# Altium schematic symbol library Interconnects.SchLib: 25 symbols
Pins are listed as number, name and electrical type; pins without a type are passive.

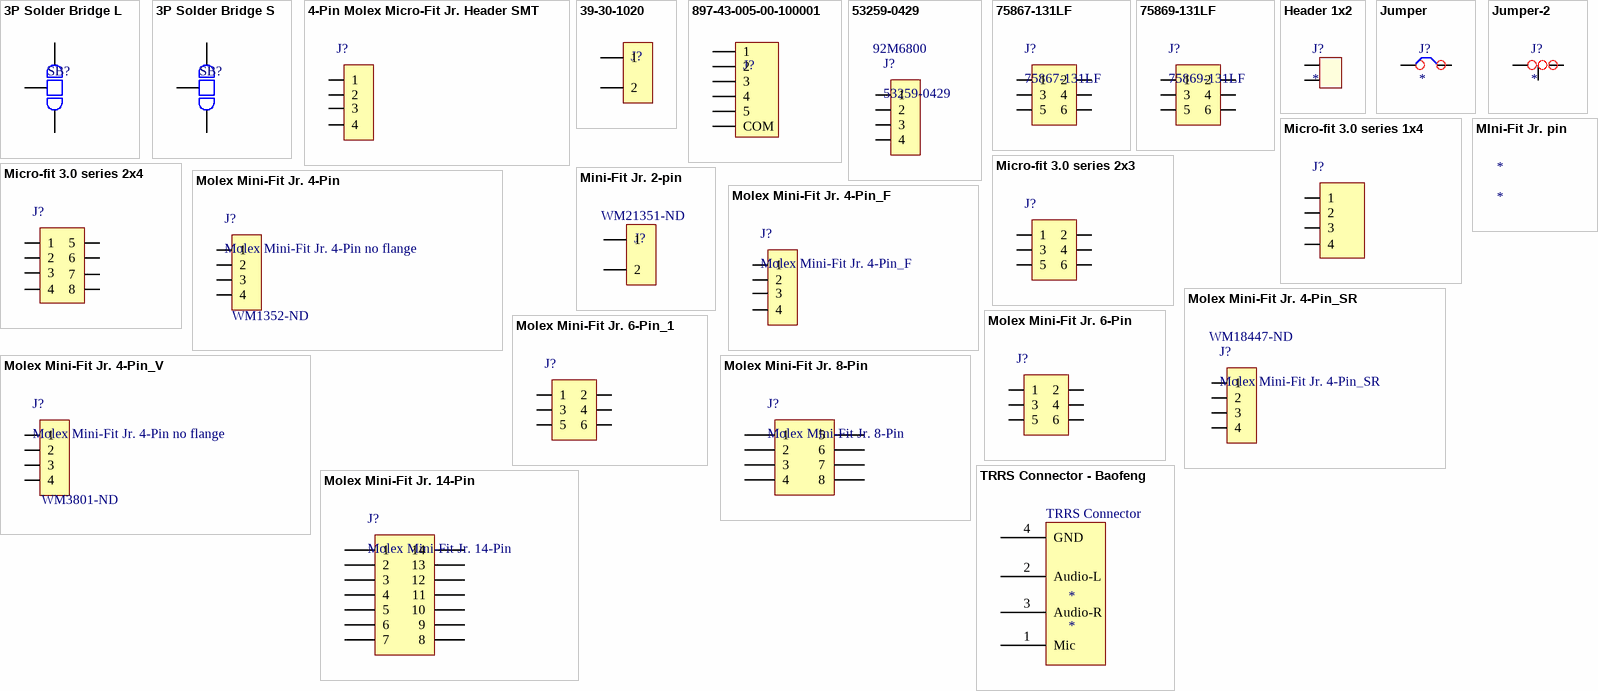
[diagram p0: symbols 3P Solder Bridge L to TRRS Connector - Baofeng]

## 3P Solder Bridge L
designator SB?  (value not drawn)
Solder Bridge, 3 position, Large; Solder Pads: 3; Latest Rev Note: Component Created; Latest Rev Date: Oct 31, 2010; Package: Custom 3 pad solder bridge large; Published: Oct 31, 2010; Publisher: Chris Bergsneider
footprint Solder Bridge 3P L (Solder Bridge, 3 position, Large)
pins: 1, 2, 3

## 3P Solder Bridge S
designator SB?  (value not drawn)
Solder Bridge, 3 position, Small; Solder Pads: 3; Latest Rev Note: Component Created; Latest Rev Date: Oct 31, 2010; Package: Custom 3 pad solder bridge small; Published: Oct 31, 2010; Publisher: Chris Bergsneider
footprint Solder Bridge 3P S (Solder Bridge, 3 position, Small)
pins: 1, 2, 3

## 4-Pin Molex Micro-Fit Jr. Header SMT
designator J?, comment Molex Micro-Fit Jr. 4-Pin  (value not drawn)
4-Pin Molex Micro-Fit Jr. Header SMT; Drawn By: Aaron Mills; Drawing Date: Jan. 2, 2011; Manufacturer: Molex; ComponentLink1URL: http://www.molex.com/pdm_docs/sd/436500409_sd.pdf; ComponentLink1Description: Datasheet; Supplier1: http://search.digikey.com/scripts/DkSearch/dksus.dll?Detail&name=WM1882-ND
footprint Micro-fit 3.0 SERIES 1x4 SMT (Right angle)
pins: 1, 2, 3, 4

## 39-30-1020
designator J?  (value not drawn)
Molex Mini-fit Jr 5569 series, 2 pos. 1 row.; Ordering: http://search.digikey.com/scripts/DkSearch/dksus.dll?Detail&name=WM1351-ND; Datasheet: http://www.molex.com/pdm_docs/sd/039301020_sd.pdf
footprint Mini-Fit Jr. 5569 series
pins: 1, 2

## 897-43-005-00-100001
designator J?  (value not drawn)
CONN RECEPT MINI-USB TYPE B SMT; Ordering: http://search.digikey.com/us/en/products/897-43-005-00-100001/ED90341CT-ND/1914935; Datasheet: http://www.mill-max.com/images/products/pdf/121N.PDF
footprint 896-43-005-00-100001 (CONN RECEPT MINI-USB TYPE A SMT)
pins: 1, 2, 3, 4, 5, 6 COM

## 53259-0429
designator J?  Supplier Part Number 1: 92M6800
3.50mm Pitch Header, Right Angle, 4 Circuits; Manufacturer: MOLEX; Supplier 1: Newark; Manufacturer Part Number: 53259-0429; Stock 1: 0; Pricing 1: 1=1.26, 600=1.19, 1200=1.16, 2400=1.13, 2500=1.04, 5000=0.936, 10000=0.889, 25000=0.849 (USD)
footprint 53259-0429 (3.50mm Pitch Header, Right Angle, 4 Circuits)
pins: 1, 2, 3, 4

## 75867-131LF
designator J?
CONN HEADER 6POS DUAL R/A PCB; Drawn By: Aaron Mills; Drawing Date: Jan. 2, 2011; ComponentLink1URL: http://portal.fciconnect.com/res/en/pdffiles/doc_search/75869.pdf; ComponentLink1Description: Datasheet; ComponentLink2Description: Mechanical Drawing; Supplier 1: http://search.digikey.com/scripts/DkSearch/dksus.dll?x=0&y=0&lang=en&site=us&KeyWords=609-2845-ND
footprint 75867-131LF (CONN HEADER 6POS DUAL R/A PCB)
pins: 1, 2, 3, 4, 5, 6

## 75869-131LF
designator J?
CONN HEADER 6POS DUAL VERT PCB; Drawn By: Aaron Mills; Drawing Date: Jan. 2, 2011; ComponentLink1URL: http://portal.fciconnect.com/res/en/pdffiles/doc_search/75869.pdf; ComponentLink1Description: Datasheet; ComponentLink2Description: Mechanical Drawing; Supplier 1: http://search.digikey.com/scripts/DkSearch/dksus.dll?x=0&y=0&lang=en&site=us&KeyWords=609-2845-ND
footprint 75869-131LF (CONN HEADER 6POS DUAL VERT PCB)
pins: 1, 2, 3, 4, 5, 6

## Header 1x2
designator J?
footprint Header 1x2 (0.1in pitch)
pins: 1, 2

## Jumper
designator J?
Single Throw Jumper
footprint Jumper (0.1in pitch)
pins: 1, 2

## Jumper-2
designator J?
Double Throw Jumper
footprint Jumper - 2 (0.1in pitch, double throw)
pins: 1, 2, 3

## Micro-fit 3.0 series 1x4
designator J?  (value not drawn)
4-Pin Molex Mini-Fit Jr. Header  through hole; Drawn By: Aaron Mills; Drawing Date: Jan. 2, 2011; Manufacturer: Molex; ComponentLink1URL: http://www.molex.com/datasheets/pdf/en-us/0436500400_PCB_HEADERS.pdf; ComponentLink1Description: Datasheet; ComponentLink2Description: Mechanical Drawing; ComponentLink2URL: http://www.molex.com/pdm_docs/sd/436500400_sd.pdf; Supplier 1: http://www.mouser.com/ProductDetail/Molex/43650-0400/?qs=sGAEpiMZZMtsLRyDR9nM18mJd%252baLxMG93jo8A2aChec%3d
footprint Micro-fit 3.0 SERIES 1x4 thruhole (Right angle)
pins: 1, 2, 3, 4

## Micro-fit 3.0 series 2x3
designator J?  (value not drawn)
6-Pin Molex Mini-Fit Jr. Header  through hole; Drawn By: Aaron Mills; Drawing Date: Jan. 2, 2011; Manufacturer: Molex; ComponentLink1URL: http://www.molex.com/datasheets/pdf/en-us/0430450621_PCB_HEADERS.pdf; ComponentLink1Description: Datasheet; ComponentLink2Description: Mechanical Drawing; ComponentLink2URL: http://www.teamdrink.org/documents/specs/43045r.pdf; Supplier 1: http://www.mouser.com/ProductDetail/Molex/43045-0600/?qs=sGAEpiMZZMtsLRyDR9nM13kGx0WjOXXXUBHC%2f7ijrhg%3d
pins: 1, 2, 3, 4, 5, 6

## Micro-fit 3.0 series 2x4
designator J?  (value not drawn)
8-Pin Molex Mini-Fit Jr. Header  through hole; Drawn By: Aaron Mills; Drawing Date: Jan. 2, 2011; Manufacturer: Molex; ComponentLink1URL: http://www.molex.com/pdm_docs/sd/430450800_sd.pdf; ComponentLink1Description: Datasheet; ComponentLink2Description: Mechanical Drawing; ComponentLink2URL: http://www.molex.com/pdm_docs/sd/430450800_sd.pdf; Supplier 1: http://search.digikey.com/scripts/DkSearch/dksus.dll?Detail&name=WM1816-ND
footprint Micro-fit 3.0 SERIES 2x4 thruhole (Right angle)
pins: 1, 2, 3, 4, 5, 6, 7, 8

## Mini-Fit Jr. 2-pin
designator J?  Supplier Part Number 1: WM21351-ND  (hidden comment: *)
Mini-Fit Jr. 2-pin Right Angle; Manufacturer: Molex Inc; Manufacturer Part Number: 0039300020; Connector Type: Header, Shrouded; Number of Positions: 2; Number of Positions Loaded: All; Row Spacing: 0.165" (4.20mm); Ordering: http://search.digikey.com/scripts/DkSearch/dksus.dll?Detail&name=WM1351-ND; Datasheet: http://www.molex.com/pdm_docs/sd/039301020_sd.pdf; Supplier 1: Digi-Key; RoHS: RoHS Compliant; Category: Connectors, Interconnects; Stock 1: 371; Pricing 1: 1=0.77, 10=0.674, 50=0.6078, 100=0.5815, 250=0.5286, 500=0.47574, 1000=0.42288, 2500=0.38324, 5000=0.37002 (USD); Contact Type: Male Pin; Pitch: -; Number of Rows: 2; Contact Mating Length: -; Mounting Type: Through Hole, Right Angle; Termination: Solder; Fastening Type: Locking Ramp; Features: Board Lock; Contact Finish: Tin; Contact Finish Thickness: 200µin (5.08µm); Color: Natural; Packaging: Tray; ComponentLink1URL: http://www.molex.com/pdm_docs/sd/039300020_sd.pdf; ComponentLink1Description: http://www.molex.com/pdm_docs/sd/039300020_sd.pdf
footprint Mini-Fit Jr. 2
pins: 1, 2

## MIni-Fit Jr. pin
designator *

## Molex Mini-Fit Jr. 4-Pin
designator J?, comment Molex Mini-Fit Jr. 4-Pin no flange  Supplier Part Number 1: WM1352-ND
4-Pin Molex Mini-Fit Jr. Header; Manufacturer Part Number: 0039301040; Connector Type: Header, Shrouded; Number of Positions: 4; Number of Positions Loaded: All; Pitch: 0.165" (4.20mm); Drawn By: Aaron Mills; Drawing Date: Jan. 2, 2011; Manufacturer: Molex; ComponentLink1URL: http://www.molex.com/pdm_docs/sd/039295043_sd.pdf; ComponentLink1Description: Datasheet; Supplier1: http://search.digikey.com/us/en/products/39-30-1040/WM1352-ND/561079; Supplier 1: Digi-Key; RoHS: RoHS Compliant; Category: Connectors, Interconnects; Stock 1: 4191; Pricing 1: 1=0.77, 10=0.674, 25=0.6344, 50=0.6078, 100=0.5815, 250=0.5286, 500=0.47574, 1000=0.42288, 2500=0.38324 (USD); Contact Type: Male Pin; Number of Rows: 2; Row Spacing: 0.165" (4.20mm); Contact Mating Length: -; Mounting Type: Through Hole, Right Angle; Termination: Solder; Fastening Type: Locking Ramp; Features: Board Lock; Contact Finish: Tin; Contact Finish Thickness: 100µin (2.54µm); Color: Natural; Packaging: Tray; ComponentLink2URL: http://www.molex.com/pdm_docs/sd/039301040_sd.pdf; ComponentLink2Description: http://www.molex.com/pdm_docs/sd/039301040_sd.pdf
footprint Molex Mini-Fit Jr. 4-Pin - no flange (4-Pin Moles Mini-Fit Jr. Right Angle Header)
pins: 1, 2, 3, 4

## Molex Mini-Fit Jr. 4-Pin_F
designator J?
4-Pin Molex Mini-Fit Jr. Header w/ PCB Flanges; Drawn By: Aaron Mills; Drawing Date: Jan. 2, 2011; Manufacturer: Molex; ComponentLink1URL: http://www.molex.com/pdm_docs/sd/039295043_sd.pdf; ComponentLink1Description: Datasheet; Supplier1: http://search.digikey.com/scripts/DkSearch/dksus.dll?Detail&name=WM3921-ND
footprint Molex Mini-Fit Jr. 4-Pin (4-Pin Moles Mini-Fit Jr. Right Angle Header with PCB Flange)
pins: 1, 2, 3, 4

## Molex Mini-Fit Jr. 4-Pin_SR
designator J?  Supplier Part Number 1: WM18447-ND
4-Pin Molex Mini-Fit Jr. Header Single Row; Manufacturer Part Number: 0039303045; Connector Type: Header, Shrouded; Number of Positions: 4; Number of Positions Loaded: All; Pitch: 0.165" (4.20mm); Drawn By: Aaron Mills; Drawing Date: Jan. 2, 2011; Manufacturer: Molex; ComponentLink1URL: http://www.molex.com/pdm_docs/sd/039295043_sd.pdf; ComponentLink1Description: Datasheet; Supplier1: http://search.digikey.com/scripts/DkSearch/dksus.dll?Detail&name=WM3921-ND; Supplier 1: Digi-Key; RoHS: RoHS Compliant; Category: Connectors, Interconnects; Stock 1: 24671; Pricing 1: 1=1.05, 10=0.927, 25=0.8728, 50=0.8366, 100=0.8001, 250=0.7274, 500=0.65466, 1000=0.58192, 2500=0.52736 (USD); Contact Type: Male Pin; Number of Rows: 1; Row Spacing: -; Contact Mating Length: -; Mounting Type: Through Hole, Right Angle; Termination: Solder; Fastening Type: Locking Ramp; Features: Board Lock; Contact Finish: Tin; Contact Finish Thickness: 200µin (5.08µm); Color: Natural; Packaging: Tray; ComponentLink2URL: http://www.molex.com/pdm_docs/sd/039303045_sd.pdf; ComponentLink2Description: http://www.molex.com/pdm_docs/sd/039303045_sd.pdf
footprint Molex Mini-Fit Jr. 4-Pin Single Row (4-Pin Moles Mini-Fit Jr. Right Angle Header)
pins: 1, 2, 3, 4

## Molex Mini-Fit Jr. 4-Pin_V
designator J?, comment Molex Mini-Fit Jr. 4-Pin no flange  Supplier Part Number 1: WM3801-ND
4-Pin Molex Mini-Fit Jr. Header Vertical; Manufacturer: Molex Inc; Manufacturer Part Number: 0039281043; Connector Type: Header, Shrouded; Number of Positions: 4; Number of Positions Loaded: All; Pitch: 0.165" (4.20mm); Supplier 1: Digi-Key; RoHS: RoHS Compliant; Category: Connectors, Interconnects; Stock 1: 13663; Pricing 1: 1=0.73, 10=0.644, 25=0.606, 50=0.5808, 100=0.5555, 250=0.505, 500=0.4545, 1000=0.404, 2500=0.36612 (USD); Contact Type: Male Pin; Number of Rows: 2; Row Spacing: 0.165" (4.20mm); Contact Mating Length: -; Mounting Type: Through Hole; Termination: Solder; Fastening Type: Locking Ramp; Features: -; Contact Finish: Tin; Contact Finish Thickness: 35µin (0.90µm); Color: Natural; Packaging: Tray; ComponentLink1URL: http://www.molex.com/pdm_docs/sd/039281043_sd.pdf; ComponentLink1Description: http://www.molex.com/pdm_docs/sd/039281043_sd.pdf
footprint Molex Mini-Fit Jr. 4-Pin - no flange - V (4-Pin Moles Mini-Fit Jr. Vertical)
pins: 1, 2, 3, 4

## Molex Mini-Fit Jr. 6-Pin
designator J?  (value not drawn)
6-Pin Molex Mini-Fit Jr. Header  through hole; Drawn By: Aaron Mills; Drawing Date: Jan. 2, 2011; Manufacturer: Molex; ComponentLink1URL: http://www.molex.com/pdm_docs/sd/039295063_sd.pdf; ComponentLink1Description: Datasheet; ComponentLink2Description: Mechanical Drawing; Supplier 1: http://search.digikey.com/scripts/DkSearch/dksus.dll?Detail&name=WM3922-ND
footprint Molex Mini-Fit Jr. 6-Pin (6-Pin Moles Mini-Fit Jr. Right Angle Header with PCB Flange)
pins: 1, 2, 3, 4, 5, 6

## Molex Mini-Fit Jr. 6-Pin_1
designator J?  (value not drawn)
6-Pin Molex Mini-Fit Jr. Header  through hole; Drawn By: Aaron Mills; Drawing Date: Jan. 2, 2011; Manufacturer: Molex; ComponentLink1URL: http://www.molex.com/pdm_docs/sd/039295063_sd.pdf; ComponentLink1Description: Datasheet; ComponentLink2Description: Mechanical Drawing; Supplier 1: http://search.digikey.com/scripts/DkSearch/dksus.dll?Detail&name=WM3922-ND
pins: 1, 2, 3, 4, 5, 6

## Molex Mini-Fit Jr. 8-Pin
designator J?
8-Pin Molex Mini-Fit Jr. Header w/ PCB Flanges; Drawn By: Joshua Straquadine; Drawing Date: Jan. 2, 2011; Manufacturer: Molex; ComponentLink1URL: http://www.molex.com/datasheets/pdf/en-us/0039291088_PCB_HEADERS.pdf; ComponentLink1Description: Datasheet
footprint Molex Mini-Fit Jr. 8-Pin (8-Pin Moles Mini-Fit Jr. Right Angle Header with PCB Flange)
pins: 1, 2, 3, 4, 5, 6, 7, 8

## Molex Mini-Fit Jr. 14-Pin
designator J?
14-Pin Molex Mini-Fit Jr. Header w/ PCB Flanges; Drawn By: Joshua Straquadine; Drawing Date: Jan. 2, 2011; Manufacturer: Molex; ComponentLink1URL: http://www.molex.com/datasheets/pdf/en-us/0039291088_PCB_HEADERS.pdf; ComponentLink1Description: Datasheet
footprint Molex Mini-Fit Jr. 14-Pin (14-Pin Moles Mini-Fit Jr. Right Angle Header with PCB Flange)
pins: 1, 2, 3, 4, 5, 6, 7, 8, 9, 10, 11, 12, 13, 14

## TRRS Connector - Baofeng
designator *
footprint TRRS Connector
pins: 1 Mic, 2 Audio-L, 3 Audio-R, 4 GND
text: TRRS Connector